# EAGLE library part 6Z4-SIMPLE (library XXXXXXtube supl)
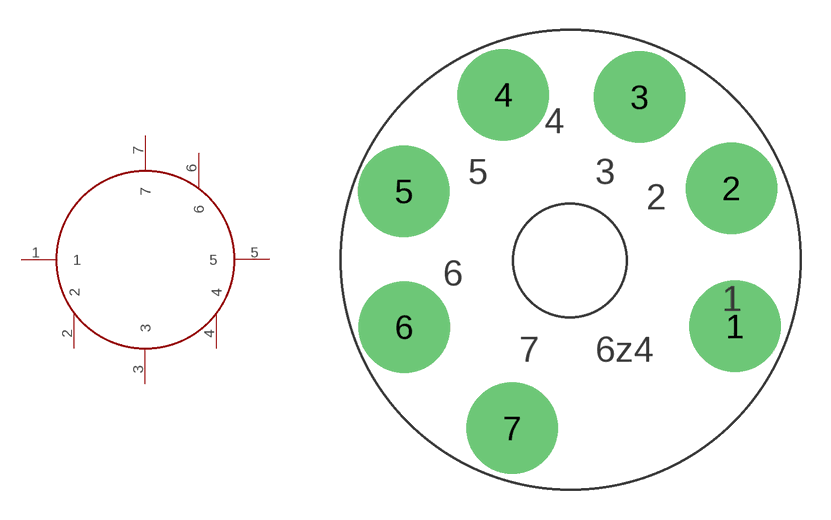
[diagram p3: symbol with the pads of MINI_P7; footprint MINI_P7]

Designator prefix -

## 6Z4-SIMPLE  [MINI_P7]
1  1
2  2
3  3
4  4
5  5
6  6
7  7

## Footprint MINI_P7 (pad centres in mm)
drill 2.2 pad 4.572: 1 8.265,-3.289; 2 8.085,3.618; 3 3.497,8.177; 4 -3.318,8.297; 5 -8.294,3.468; 6 -8.265,-3.318; 7 -2.869,-8.386